# EAGLE library part SC13 (library ADVsocket-computer)
SC12/SC13 Microcontroller from Beck, Ethernet, 186 compatible
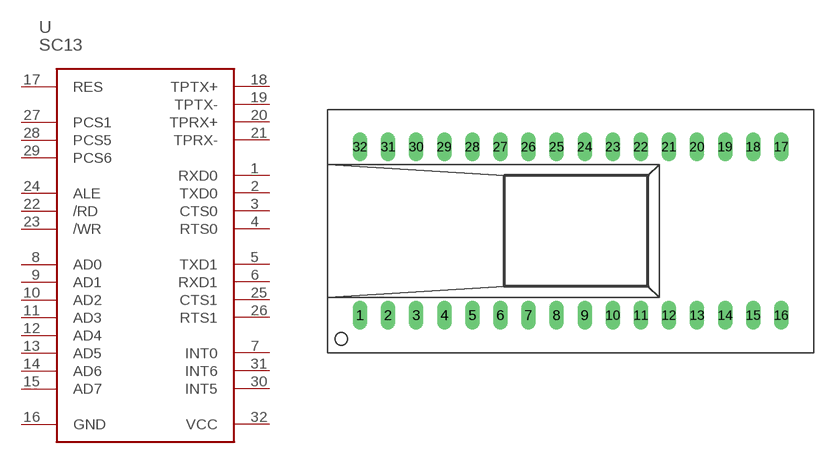
[diagram p2: symbol with the pads of SC13-DIL32; footprint SC13-DIL32]

Designator prefix -

## SC13  [SC13-DIL32]
1  RXD0
2  TXD0
3  CTS0
4  RTS0
5  TXD1
6  RXD1
7  INT0
8  AD0
9  AD1
10  AD2
11  AD3
12  AD4
13  AD5
14  AD6
15  AD7
16  GND  pwr
17  RES  in
18  TPTX+  out
19  TPTX-  out
20  TPRX+  in
21  TPRX-  in
22  /RD  out
23  /WR  out
24  ALE  out
25  CTS1
26  RTS1
27  PCS1
28  PCS5
29  PCS6
30  INT5
31  INT6
32  VCC  pwr

## Footprint SC13-DIL32 (pad centres in mm)
drill 0.813 long: 1 -19.05,-7.62; 2 -16.51,-7.62; 3 -13.97,-7.62; 4 -11.43,-7.62; 5 -8.89,-7.62; 6 -6.35,-7.62; 7 -3.81,-7.62; 8 -1.27,-7.62; 9 1.27,-7.62; 10 3.81,-7.62; 11 6.35,-7.62; 12 8.89,-7.62; 13 11.43,-7.62; 14 13.97,-7.62; 15 16.51,-7.62; 16 19.05,-7.62; 17 19.05,7.62; 18 16.51,7.62; 19 13.97,7.62; 20 11.43,7.62; 21 8.89,7.62; 22 6.35,7.62; 23 3.81,7.62; 24 1.27,7.62; 25 -1.27,7.62; 26 -3.81,7.62; 27 -6.35,7.62; 28 -8.89,7.62; 29 -11.43,7.62; 30 -13.97,7.62; 31 -16.51,7.62; 32 -19.05,7.62